# EAGLE library part 615006143421 (library USB3IO)
WR-MJ Horizontal 6P6C Half Shielded Modular Jack Tab Down, 6 Pins=>Code : Con_I-O_MJ-H_Half-Shielded_615006143421 <http://katalog.we-online.de/media/images/eican/Con_I-O_MJ-H_Half-Shielded_615006143421_pf2.jpg> Details see: http://katalog.we-online.de/en/em/615_006_143_421 Created 2014-07-10, Karrer Zheng 2014 (C) Würth Elektronik
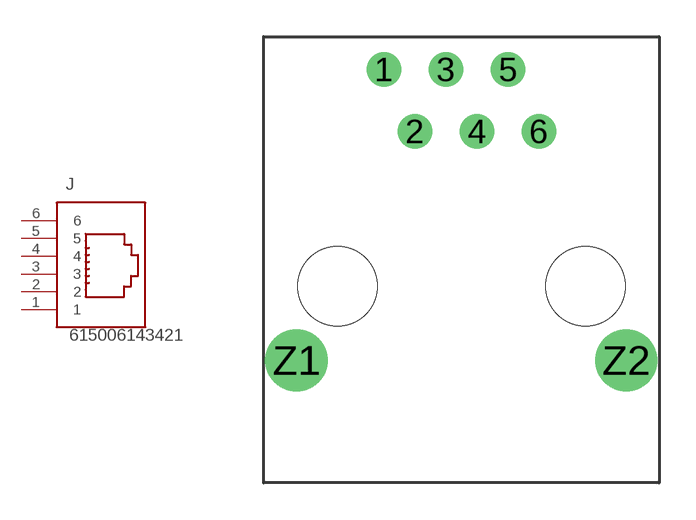
[diagram p104: symbol with the pads of 615006143421; footprint 615006143421]

Designator prefix J

## 615006143421  [615006143421]
1  1  pas
2  2  pas
3  3  pas
4  4  pas
5  5  pas
6  6  pas

## Footprint 615006143421 (pad centres in mm)
WR-MJ Horizontal 6P6C Half Shielded Modular Jack Tab Down, 6 Pins
drill 0.9: 1 -3.175,8.89; 2 -1.905,6.35; 3 -0.635,8.89; 4 0.635,6.35; 5 1.905,8.89; 6 3.175,6.35
drill 1.7: Z1 -6.75,-3.05; Z2 6.75,-3.05
hole 3.25 at -5.08,0
hole 3.25 at 5.08,0